# EAGLE library part LTC6992- (library analog-linear-tech)
Voltage-Controlled Pulse Width Modulator (PWM)
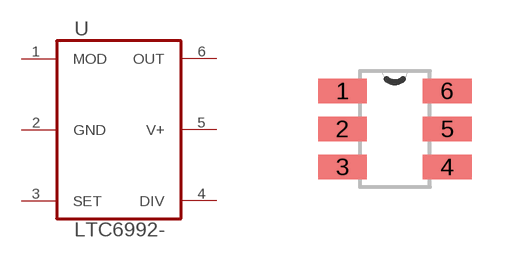
[diagram p0: symbol with the pads of S6; footprint S6]

Designator prefix U

## LTC6992-S6 (AVAILABILITY: Warning; DESCRIPTION: LTC6992 - TimerBlox: Voltage-Controlled Pulse Width Modulator _PWM_; MF: Linear Technology; MP: LTC6992CS6-3#TRMPBF; PACKAGE: TSOT-23-6 Linear Technology; PRICE: 2.64 USD)  [S6]
1  MOD  in
2  GND  pwr
3  SET  in
4  DIV  in
5  V+  pwr
6  OUT  out

## Footprint S6 (pad centres in mm)
smd 1.22 x 0.62: 1 -1.31,0.95; 2 -1.31,0; 3 -1.31,-0.95; 4 1.31,-0.95; 5 1.31,0; 6 1.31,0.95